# EAGLE library part SIM_CARD_HOLDER (library Deegou_Connector)
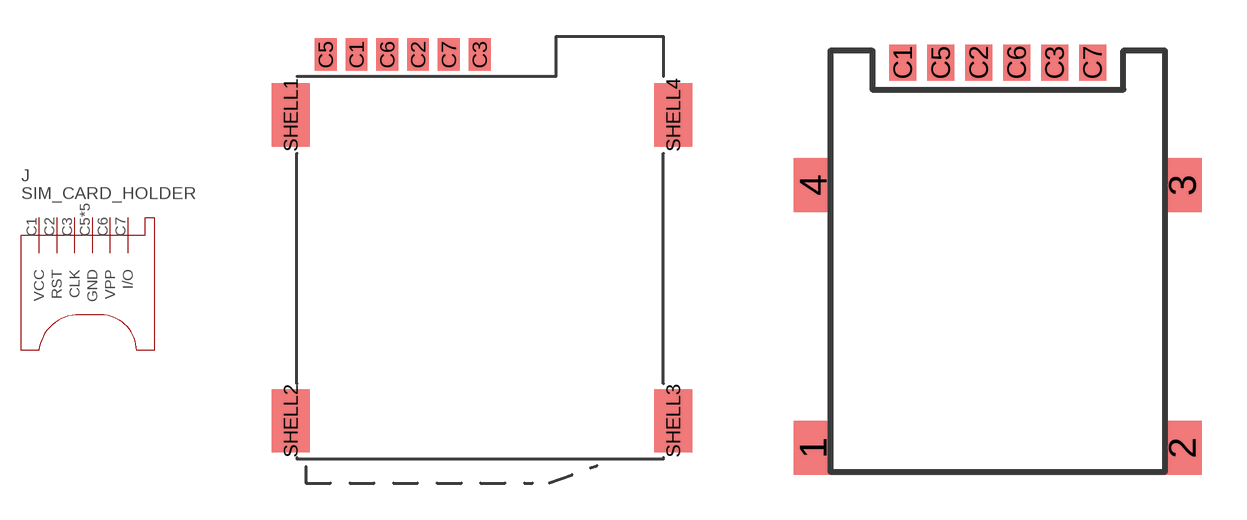
[diagram p0: symbol with the pads of 1.4-PUSH_MICRO_SIM_CARD_HOLDER; footprints 1.4-PUSH_MICRO_SIM_CARD_HOLDER, SIM-NANO]

Designator prefix J

## SIM_CARD_HOLDER  [1.4-PUSH_MICRO_SIM_CARD_HOLDER]
C1  VCC
C2  RST
C3  CLK
C5  GND
C6  VPP
C7  I/O
SHELL1  GND
SHELL2  GND
SHELL3  GND
SHELL4  GND

## SIM_CARD_HOLDER-NANO  [SIM-NANO]
1  GND
2  GND
3  GND
4  GND
C1  VCC
C2  RST
C3  CLK
C5  GND
C6  VPP
C7  I/O

## SIM_CARD_HOLDER-NANO-PULL-PUSH  [SIM-NANO-PULL-PUSH]
6  GND
10  GND
C1  VCC
C2  RST
C3  CLK
C5  GND
C6  VPP
C7  I/O

## Footprint 1.4-PUSH_MICRO_SIM_CARD_HOLDER (pad centres in mm)
smd 0.9 x 1.34: C1 2.71,15.12; C2 5.25,15.12; C3 7.79,15.12; C5 1.44,15.12; C6 3.98,15.12; C7 6.52,15.12
smd 1.56 x 2.61: SHELL1 0,12.63; SHELL2 0,0; SHELL3 15.78,0; SHELL4 15.78,12.63

## Footprint SIM-NANO (pad centres in mm)
smd 1.3 x 1.8: 1 -6.175,0; 2 6.175,0; 3 6.175,8.8; 4 -6.175,8.8
smd 0.9 x 1.2: C1 -3.175,12.9; C2 -0.635,12.9; C3 1.905,12.9; C5 -1.905,12.9; C6 0.635,12.9; C7 3.175,12.9

## Footprint SIM-NANO-PULL-PUSH (pad centres in mm)
smd 1 x 3: 6 5.3,0; 10 -5.3,0
smd 1 x 1.1: C1 2.54,-5.9; C2 0,-5.9; C3 -2.54,-5.9; C5 2.54,5.9; C6 0,5.9; C7 -2.54,5.9
hole 0.9 at -4.4,-4.15
hole 0.7 at 4.6,4.15